# Altium footprint library Chip Inductor - 2 Contacts.PcbLib: 11 footprints
Each footprint in its own frame and in the unit in brackets; x right, y up, seen from the top. Pads: shape width x height; smd on the part's side, far side on the other; paste and mask are expansions set on the pad; w line width, h text height; cw(c..) or ccw(c..) is an arc to the next point about the centre after c.
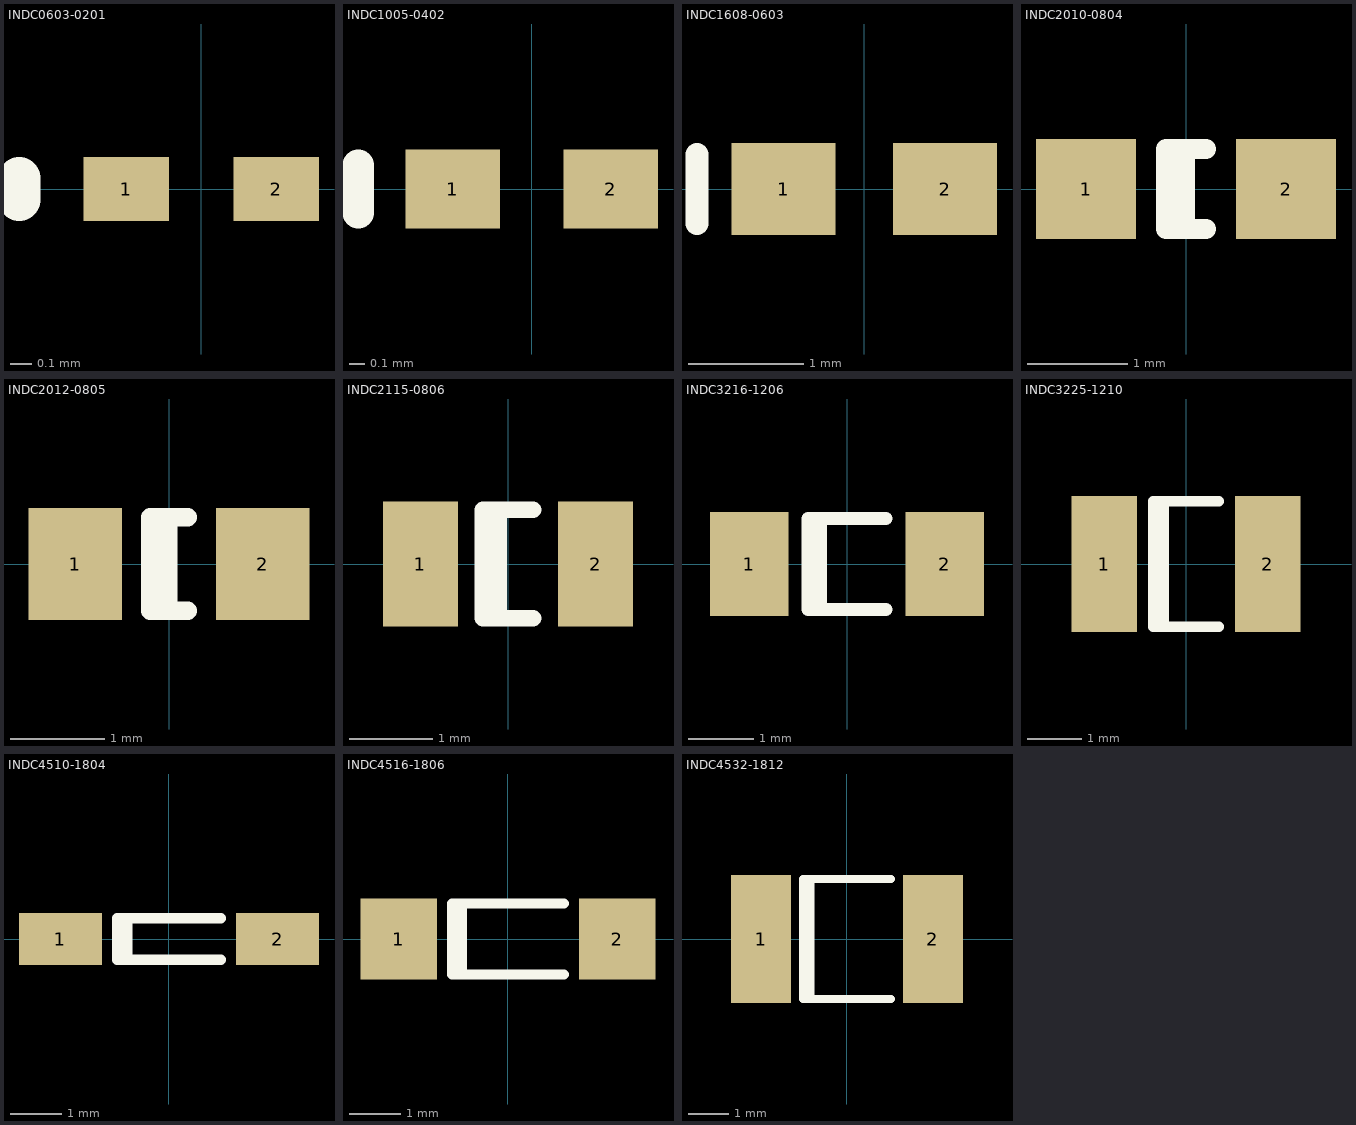
[diagram p0: the footprints below, top view; thin cyan lines are the x and y axes]

## INDC0603-0201 [mm] "Chip Inductor; Body 0.6 x 0.3 mm (LxW typ)"
height 0.35
pads (2):
  rect 0.4x0.3 smd: 1(-0.35,0) 2(0.35,0)
Top Overlay:
  lines w0.2: -0.85,-0.05 -0.85,0.05

## INDC1005-0402 [mm] "Chip Inductor; Body 1 x 0.5 mm (LxW typ)"
height 0.55
pads (2):
  rect 0.6x0.5 smd: 1(-0.5,0) 2(0.5,0)
Top Overlay:
  lines w0.2: -1.1,-0.15 -1.1,0.15

## INDC1608-0603 [mm] "Chip Inductor; Body 1.6 x 0.8 mm (LxW typ)"
height 0.71
pads (2):
  rect 0.9x0.8 smd: 1(-0.7,0) 2(0.7,0)
Top Overlay:
  lines w0.2: -1.45,-0.3 -1.45,0.3

## INDC2010-0804 [mm] "Chip Inductor; Body 2.0 x 1.2 mm (LxW typ)"
height 1.2
pads (2):
  rect 1x1 smd: 1(-1,0) 2(1,0)
Top Overlay:
  lines w0.2: -0.01,-0.4 -0.01,0.4 ; 0.2,-0.4 -0.2,-0.4 -0.2,0.4 0.2,0.4

## INDC2012-0805 [mm] "Chip Inductor; Body 2 x 1.2 mm (LxW typ)"
height 1.1
pads (2):
  rect 1x1.2 smd: 1(-1,0) 2(1,0)
Top Overlay:
  lines w0.2: -0.01,-0.5 -0.01,0.5 ; 0.2,-0.5 -0.2,-0.5 -0.2,0.5 0.2,0.5

## INDC2115-0806 [mm] "Chip Inductor; Body 2.1 x 1.5 mm (LxW typ)"
height 1.04
pads (2):
  rect 0.9x1.5 smd: 1(-1.05,0) 2(1.05,0)
Top Overlay:
  lines w0.2: -0.11,-0.65 -0.11,0.65 ; 0.3,-0.65 -0.3,-0.65 -0.3,0.65 0.3,0.65

## INDC3216-1206 [mm] "Chip Inductor; Body 3.2 x 1.6 mm (LxW typ)"
height 1.3
pads (2):
  rect 1.2x1.6 smd: 1(-1.5,0) 2(1.5,0)
Top Overlay:
  lines w0.2: -0.41,-0.7 -0.41,0.7 ; 0.6,-0.7 -0.6,-0.7 -0.6,0.7 0.6,0.7

## INDC3225-1210 [mm] "Chip Inductor; Body 3.2 x 2.5 mm (LxW typ)"
height 1.5
pads (2):
  rect 1.2x2.5 smd: 1(-1.5,0) 2(1.5,0)
Top Overlay:
  lines w0.2: -0.41,-1.15 -0.41,1.15 ; 0.6,-1.15 -0.6,-1.15 -0.6,1.15 0.6,1.15

## INDC4510-1804 [mm] "Chip Inductor; Body 4.5 x 6.4 mm (LxW typ)"
height 1.9
pads (2):
  rect 1.6x1 smd: 1(-2.1,0) 2(2.1,0)
Top Overlay:
  lines w0.2: -0.81,-0.4 -0.81,0.4 ; 1,-0.4 -1,-0.4 -1,0.4 1,0.4

## INDC4516-1806 [mm] "Chip Inductor; Body 4.5 x 1.6 mm (LxW typ)"
height 1.8
pads (2):
  rect 1.5x1.6 smd: 1(-2.15,0) 2(2.15,0)
Top Overlay:
  lines w0.2: -0.91,-0.7 -0.91,0.7 ; 1.1,-0.7 -1.1,-0.7 -1.1,0.7 1.1,0.7

## INDC4532-1812 [mm] "Chip Inductor; Body 4.5 x 3.2 mm (LxW typ)"
height 1.7
pads (2):
  rect 1.5x3.2 smd: 1(-2.15,0) 2(2.15,0)
Top Overlay:
  lines w0.2: -0.91,-1.5 -0.91,1.5 ; 1.1,-1.5 -1.1,-1.5 -1.1,1.5 1.1,1.5